# Altium schematic symbol library ECS-260-9-33B-CKY-TR.SchLib: 1 symbol
Pins are listed as number, name and electrical type; pins without a type are passive.

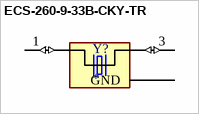
[diagram p0: symbol ECS-260-9-33B-CKY-TR]

## ECS-260-9-33B-CKY-TR
designator Y?
Crystal 20MHz Â±10ppm (Tol) Â±10ppm (Stability) 9pF FUND 40Ohm 4-Pin Mini-CSMD T/R; Manufacturer Part Number: ECS-200-9-33B-CKY-TR; MF: ECS Inc.; Availability: Good; Package: None; Value: *; Price: None; SnapEDA_Link: https://www.snapeda.com/parts/ECS-260-9-33B-CKY-TR/ECS%20Inc./view-part/5048361/?ref=snap; Check_prices: https://www.snapeda.com/parts/ECS-260-9-33B-CKY-TR/ECS%20Inc./view-part/5048361/?ref=eda; Purchase-URL: https://pricing.snapeda.com/search/part/ECS-260-9-33B-CKY-TR/?ref=eda; Manufacturer: ECS Inc.; Supplier: Digi-Key; Supplier Part Number: XC2464CT-ND
footprint XTAL_ECS-260-9-33B-CKY-TR
pins: 1 IN/OUT (io), 3 OUT/IN (io), 4 GND (power)